# EAGLE library part GAMEBOYZEROHANDHELDDISPLAYS-1.8 (library GameboyZeroHandheldDisplays)
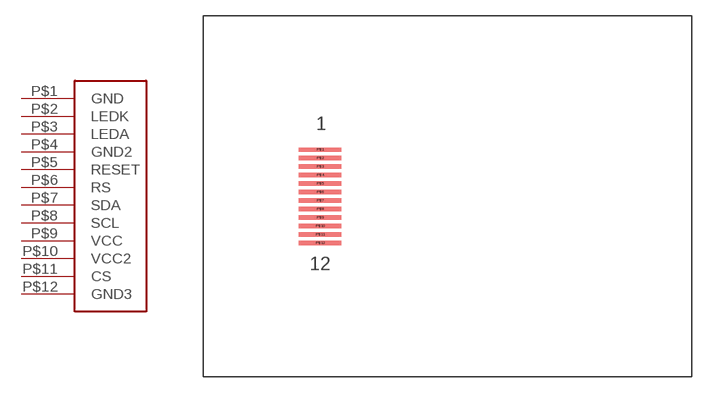
[diagram p0: symbol with the pads of GAMEBOYZEROHANDHELDDISPLAYS-1.8; footprint GAMEBOYZEROHANDHELDDISPLAYS-1.8]

Designator prefix -

## GAMEBOYZEROHANDHELDDISPLAYS-1.8  [GAMEBOYZEROHANDHELDDISPLAYS-1.8]
P$1  GND
P$2  LEDK
P$3  LEDA
P$4  GND2
P$5  RESET
P$6  RS
P$7  SDA
P$8  SCL
P$9  VCC
P$10  VCC2
P$11  CS
P$12  GND3

## Footprint GAMEBOYZEROHANDHELDDISPLAYS-1.8 (pad centres in mm)
Gameboy Zero Handheld Displays - 1.8 Inch connector for ili9341 screens with SPI interface
smd 4 x 0.4: P$1 -12,4.4; P$2 -12,3.6; P$3 -12,2.8; P$4 -12,2; P$5 -12,1.2; P$6 -12,0.4; P$7 -12,-0.4; P$8 -12,-1.2; P$9 -12,-2; P$10 -12,-2.8; P$11 -12,-3.6; P$12 -12,-4.4